# Altium footprint library SOD123.PcbLib: 1 footprints
Each footprint in its own frame and in the unit in brackets; x right, y up, seen from the top. Pads: shape width x height; smd on the part's side, far side on the other; paste and mask are expansions set on the pad; w line width, h text height; cw(c..) or ccw(c..) is an arc to the next point about the centre after c.
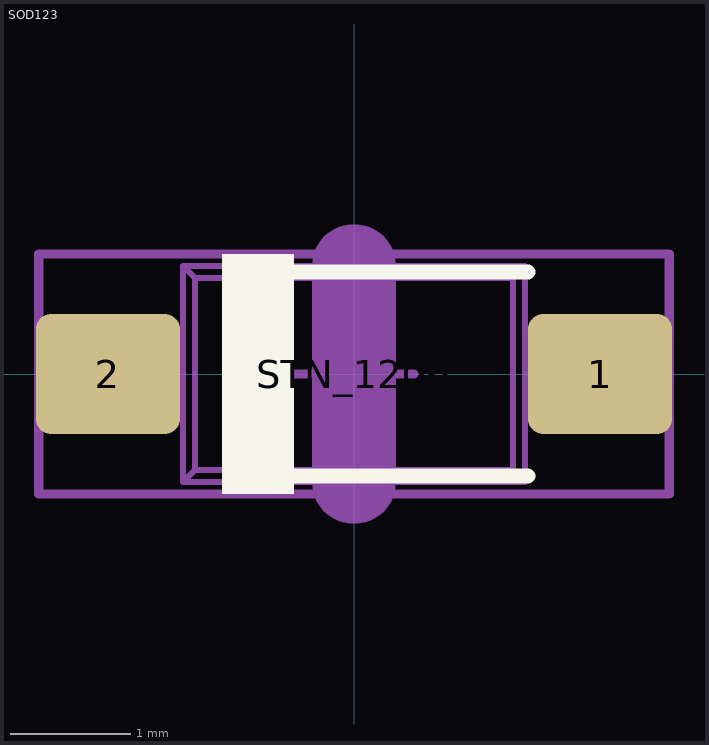
[diagram p0: the footprint, top view; thin cyan lines are the x and y axes]

## SOD123 [mm] "SOD-123; 2 Leads; Body 2.7 x 1.6 mm, (LxW)"
height 1.35
pads (3):
  rrect25% 1.2x1 smd: 1(2.05,0) 2(-2.05,0)
  oval 0.7x2.5 on Mech2 mask+0: STN_1206(0,0)
Top Overlay:
  rectangle: -1.1,-1 -0.5,1
  lines w0.127: -1,-0.85 1.448,-0.85 ; -1,0.85 1.45,0.85
Mechanical 13:
  lines w0.05: -1.766,-0.308 -1.766,0.308 ; -1.707,-0.308 -1.707,0.308 ; -1.517,-0.308 -1.517,0.308 ; -1.425,-0.308 -1.95,-0.308 -1.95,0.308 -1.425,0.308 ; 1.425,-0.308 1.95,-0.308 1.95,0.308 1.425,0.308 ; 1.517,-0.308 1.517,0.308 ; 1.707,-0.308 1.707,0.308 ; 1.766,-0.308 1.766,0.308 ; -1.425,-0.9 1.425,-0.9 ; -1.425,-0.9 -1.323,-0.798 ; -1.425,-0.9 -1.425,0.9 ; -1.425,0.9 -1.323,0.798 ; -1.425,0.9 1.425,0.9 ; -1.323,-0.798 -1.072,-0.798 ; -1.323,-0.798 -1.323,0.798 ; -1.323,0.798 -1.072,0.798 ; -1.072,-0.798 1.322,-0.797 ; -1.072,-0.798 -1.072,0.798 ; -1.072,0.798 1.322,0.797 ; 1.322,-0.797 1.322,0.797 ; 1.322,-0.797 1.425,-0.9 ; 1.322,0.797 1.425,0.9 ; 1.425,-0.9 1.425,0.9
Mechanical 15:
  lines w0.076: -0.5,0 0.5,0 ; 0,-0.5 0,0.5 ; -2.625,-1 2.625,-1 2.625,1 -2.625,1 -2.625,-1
3D body "User Library-SOD-123.STEP": height 1.25, standoff 0, extent -1.849,-0.8 1.849,0.8